# Altium footprint library 1206SMDswitch.PcbLib: 1 footprints
Each footprint in its own frame and in the unit in brackets; x right, y up, seen from the top. Pads: shape width x height; smd on the part's side, far side on the other; paste and mask are expansions set on the pad; w line width, h text height; cw(c..) or ccw(c..) is an arc to the next point about the centre after c.
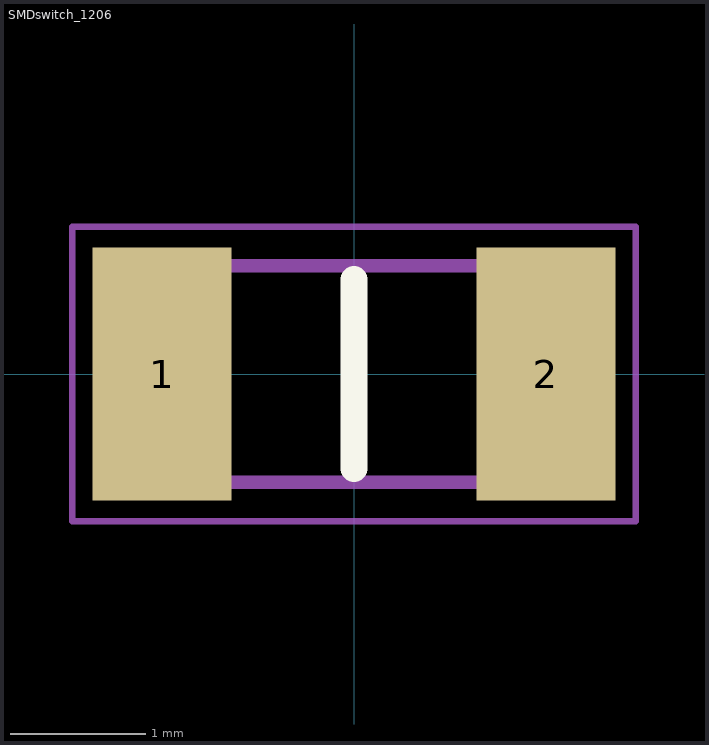
[diagram p0: the footprint, top view; thin cyan lines are the x and y axes]

## SMDswitch_1206 [mm]
pads (2):
  rect 1.03x1.87 smd: 1(-1.42,0) 2(1.42,0)
L26-Silk Screen Top (Multiple PADS layers...):
  lines w0.2: 0,-0.7 0,0.7
L15 (Multiple PADS layers...):
  lines w0.1: -1.6,-0.8 1.6,-0.8 1.6,0.8 -1.6,0.8 -1.6,-0.8
L20:
  lines w0.05: -2.085,-1.09 2.085,-1.09 2.085,1.09 -2.085,1.09 -2.085,-1.09
3D body "tact_switch_K2-1808SN-A4SW.STEP": height 0.46, standoff -0.02, extent -1.53,-0.812 1.53,0.813